# Altium schematic symbol library DGxxx.SchLib: 7 symbols
Pins are listed as number, name and electrical type; pins without a type are passive.

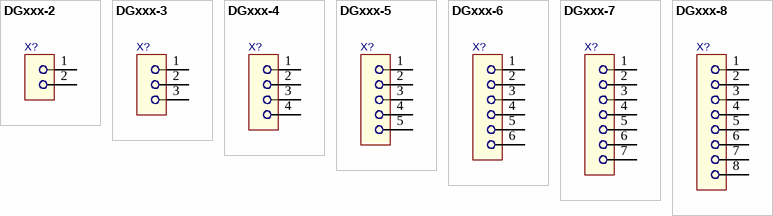
[diagram p0: symbols DGxxx-2 to DGxxx-8]

## DGxxx-2
designator X?  (value not drawn)
PCB terminal block; Value: *
footprint TB-3.5-P-2P/BL (Клеммник; угловой 90°; 0,5?1,5мм2; 3,5мм; Контактные группы:2)
footprint DG126-5.0-2P (PCB terminal block)
footprint DG308-2.54-2P (PCB terminal block)
pins: 1, 2

## DGxxx-3
designator X?  (value not drawn)
PCB terminal block; Value: *
footprint DG126-5.0-3P (PCB terminal block)
footprint DG308-2.54-3P (PCB terminal block)
footprint TB-3.5-P-3P/BL (Клеммник; угловой 90°; 0,5?1,5мм2; 3,5мм; Контактные группы:3)
pins: 1, 2, 3

## DGxxx-4
designator X?  (value not drawn)
PCB terminal block; Value: *
footprint DG126-5.0-4P (PCB terminal block)
footprint DG308-2.54-4P (PCB terminal block)
footprint TB-3.5-P-4P/BL (Клеммник; угловой 90°; 0,5?1,5мм2; 3,5мм; Контактные группы:4)
pins: 1, 2, 3, 4

## DGxxx-5
designator X?  (value not drawn)
PCB terminal block; Value: *
footprint DG126-5.0-5P (PCB terminal block)
footprint TB-3.5-P-5P/BL (Клеммник; угловой 90°; 0,5?1,5мм2; 3,5мм; Контактные группы:5)
pins: 1, 2, 3, 4, 5

## DGxxx-6
designator X?  (value not drawn)
PCB terminal block; Value: *
footprint DG126-5.0-6P (PCB terminal block)
footprint Model Name (Footprint not found)
pins: 1, 2, 3, 4, 5, 6

## DGxxx-7
designator X?  (value not drawn)
PCB terminal block; Value: *
footprint DG126-5.0-7P (PCB terminal block)
pins: 1, 2, 3, 4, 5, 6, 7

## DGxxx-8
designator X?  (value not drawn)
PCB terminal block; Value: *
footprint DG126-5.0-8P (PCB terminal block)
footprint DG308-2.54-8P (PCB terminal block)
pins: 1, 2, 3, 4, 5, 6, 7, 8